# Altium footprint library TE_2-644861-4.PcbLib: 1 footprints
Each footprint in its own frame and in the unit in brackets; x right, y up, seen from the top. Pads: shape width x height; smd on the part's side, far side on the other; paste and mask are expansions set on the pad; w line width, h text height; cw(c..) or ccw(c..) is an arc to the next point about the centre after c.
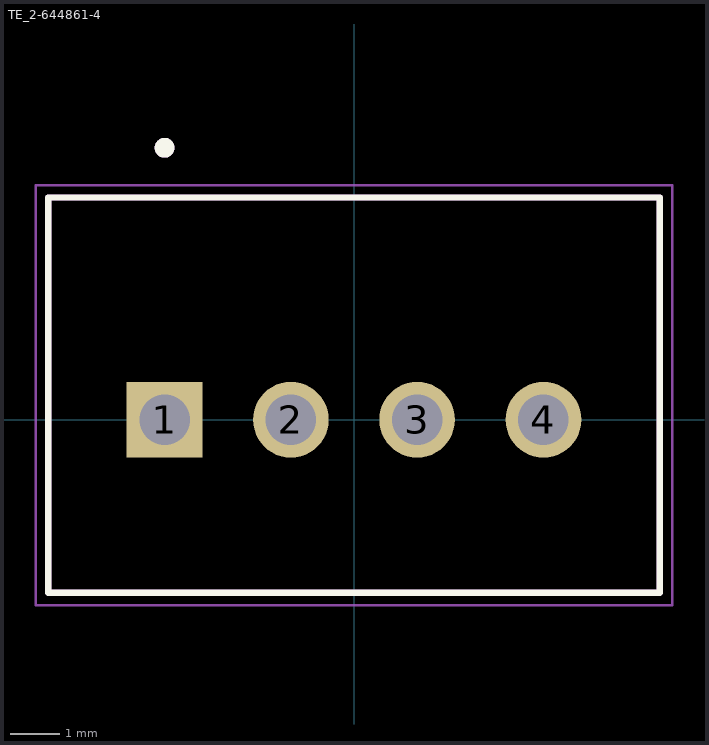
[diagram p0: the footprint, top view; thin cyan lines are the x and y axes]

## TE_2-644861-4 [mil]
pads (4):
  rect 60x60 hole 40: 1(-150,0)
  round 60 hole 40: 2(-50,0) 3(50,0) 4(150,0)
Top Overlay:
  circle w7.87: c-150,215.35 r3.94
  lines w5: -242.13,-137.01 242.13,-137.01 242.13,175.98 -242.13,175.98 -242.13,-137.01
Mechanical 13:
  circle w7.87: c-150,215.35 r3.94
  lines w5: -242.13,-137.01 242.13,-137.01 242.13,175.98 -242.13,175.98 -242.13,-137.01
Mechanical 15:
  lines w1.97: -251.97,-146.85 251.97,-146.85 251.97,185.83 -251.97,185.83 -251.97,-146.85
3D body "c-2-644861-4-n-3d.stp": height 410, standoff -140, extent -242,-136.5 242,176.5